# Altium integrated library EMC delavnica.IntLib: 11 symbols
Pins are listed as number, name and electrical type; pins without a type are passive.

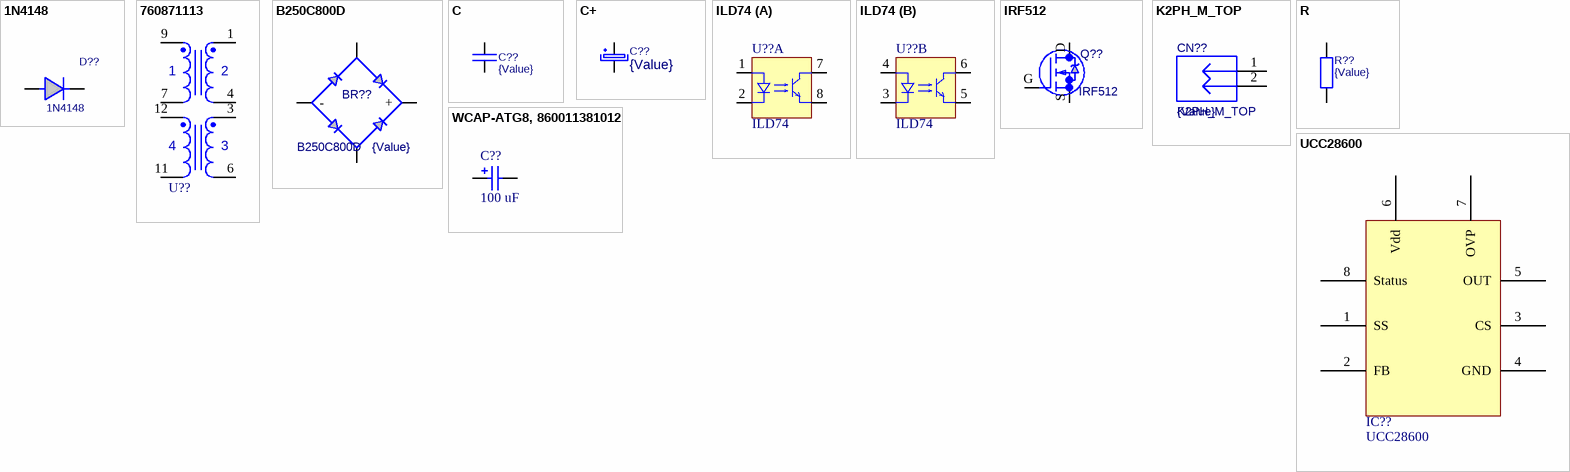
[diagram p0: symbols 1N4148 to WCAP-ATG8, 860011381012]

## 1N4148
designator D??
Value: *
footprint MELF3517N_DIO (MELF Diode, 2-Leads, Body 3,5x1,7mm, IPC Medium Density); pin to pad A>2 K>1
footprint DO 35 (300MILS)
pins: A, K

## 760871113
designator U??  (value not drawn)
WE-UOST Universal Offline Standard Transformers, size EE16/8/5, 1310 uH , 140:6:6:16 , 12.5 W; Inductance: 1310 uH; OutputPower: 12.5 W; PublishedDate: Nov. 2016; Publisher: Wurth Elektronik; ComponentLink1Description: Manufacturer; ComponentLink1URL: http://www.we-online.de; ComponentLink2Description: Datasheet; ComponentLink2URL: http://katalog.we-online.de/pbs/datasheet/760871113.pdf; PartNumber: 760871113; Size: EE16/8/5; TurnsRatio: 140:6:6:16
footprint WE-UOST_EE16/8/5 (SMD Transformer, body 25.81x16.6mm)
pins: 1, 3, 4, 6, 7, 9, 11, 12
text: 2

## B250C800D
designator BR??  value {Value}
footprint DIP4M-GREZ
pins: AC1, AC2, GND -, PLUS +

## C
designator C??, comment {Value}
Capacitor; Value: {Value}
footprint C0805
footprint C1206
footprint C square R15 (600mil)
footprint C Square R5.08 (200mil)
footprint RCL1210
footprint C0603 (Chip Capacitor, 2-Leads, Body 1,60x0,81mm, IPC Medium Density)
footprint C ceramic F5mm
pins: 1, 2

## C+
designator C??, comment {Value}
Capacitor Polarized; Value: {Value}
footprint C Tantal A (Molded Capacitor, 2-Leads, Body 3,2x1,6mm, IPC Medium Density)
footprint C Tantal B (Molded Capacitor, 2-Leads, Body 3,5x2,8mm, IPC Medium Density)
footprint C Tantal C (Molded Capacitor, 2-Leads, Body 6,0x3,2mm, IPC Medium Density)
footprint C Tantal D (Molded Capacitor, 2-Leads, Body 7,3x4,3mm, IPC Medium Density)
footprint C Tantal E (Molded Capacitor, 2-Leads, Body 7,3x4,3mm, IPC Medium Density)
footprint C_R_5.0_10.0x13.0 (Capacitor radial FI=10mm Height=13mm, Pitch=5mm)
footprint C AlElko 5x11 R2
footprint C AlElko 6x__ R2.5
footprint C-SMD-ELKO-B (Aluminum Electrolytic Capacitor, Body 4.20x4.20x6.10mm, IPC Medium Density)
footprint C-SMD-ELKO-C (Aluminum Electrolytic Capacitor, Body 5.30x5.30x6.10mm, IPC Medium Density)
footprint C-SMD-ELKO-D (Aluminum Electrolytic Capacitor, Body 6.60x6.60x6.10mm, IPC Medium Density)
footprint C-SMD-ELKO-D8 (Aluminum Electrolytic Capacitor, Body 6,60x6,60x8,00mm, IPC Medium Density)
footprint C-SMD-ELKO-F (Aluminum Electrolytic Capacitor, Body 8.30x8.30x10.50mm, IPC Medium Density)
footprint C-SMD-ELKO-G (Aluminum Electrolytic Capacitor, Body 10.30x10.30x10.50mm, IPC Medium Density)
footprint C AlElko 8x__ R3.5
footprint C AlElko 10x__ R5
footprint C AlElko R2.5,R5
footprint C AlElko R2.54 FI5
pins: 1, 2

## ILD74
designator U??
Optocoupler, Phototransistor Output, Dual Channel, TTL Compatible, Pb-free; Note: Coupling Capacitance, 0.5 pF; Note: Transfer Ratio, 35 % Typical; Published: 6-Oct-2005; DatasheetDocument: Rev. 1.4, Oct-2004; PackageDocument: Dec-2003; PackageReference: DIP8; Publisher: Altium Limited; ComponentLink1Description: Manufacturer Link; ComponentLink1URL: http://www.vishay.com/optocouplers/list/product-83640/; ComponentLink2Description: Datasheet; ComponentLink2URL: http://www.vishay.com/docs/83640/83640.pdf
footprint DIP8 (DIP; 8 Leads; Row Spacing 7.62 mm; Pitch 2.54 mm)
part A pins: 1 A, 2 K, 7 C, 8 E
part B pins: 3 K, 4 A, 5 E, 6 C

## IRF512
designator Q??
Value: {Value}
footprint TO-220AB vertical
footprint TO-220AB horizontal
footprint TO-220AB vertical + HS
footprint TO-220AB vertical + HS2
pins: D, G, S

## K2PH_M_TOP
designator CN??  value {Value}
footprint K2PH_M_TOP
pins: 1, 2

## R
designator R??, comment {Value}
R; Value: {Value}
footprint R0805
footprint R1206
footprint R400
footprint R300
footprint R500
footprint R0603 (Chip Resistor, 2-Leads, Body 1,55x0,85mm, IPC Medium Density)
pins: 1, 2

## UCC28600
designator IC??
Flyback power supply controller from TI
footprint SOIC127P600X175-8M (SOIC, 8-Leads, Body 4.90x3.90mm, Pitch 1.27mm, IPC Low Density)
pins: 1 SS, 2 FB, 3 CS, 4 GND, 5 OUT, 6 Vdd, 7 OVP, 8 Status

## WCAP-ATG8, 860011381012
designator C??, comment 100 uF
WCAP-ATG8 Aluminum Electrolytic Capacitors, 100 uF; PartNumber: 860011381012; RatedVoltage: 400V; PublishedDate: July 2016; Publisher: Wurth Elektronik; ComponentLink1Description: Manufacturer; ComponentLink1URL: http://www.we-online.de; ComponentLink2Description: Datasheet; ComponentLink2URL: http://katalog.we-online.de/pbs/datasheet/860011381012.pdf; Value: 100 uF; Size: 18mmx31.5mm
footprint WCAP-ATG8_18x31.5x7.5x0.8
pins: 1, 2